# Altium schematic symbol library F720J108MMC.SchLib: 1 symbol
Pins are listed as number, name and electrical type; pins without a type are passive.

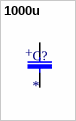
[diagram p0: symbol 1000u]

## 1000u
designator C?
F720J108MMC
footprint F720J108MMC
pins: 1, 2
text: +